# Altium schematic symbol library OLED.SchLib: 5 symbols
Pins are listed as number, name and electrical type; pins without a type are passive.

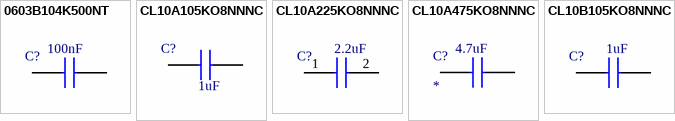
[diagram p0: symbols 0603B104K500NT to CL10B105KO8NNNC]

## 0603B104K500NT
designator C?  value 100nF  (hidden comment: *)
Capacitor; Manufacturer_Name: Fenghua Advanced Technology (Holding) CO.; Manufacturer_Part_Number: 0603B104K500NT; Datasheet Link: https://datasheet.lcsc.com/lcsc/1811081212_FH--Guangdong-Fenghua-Advanced-Tech-0603B104K500NT_C30926.pdf; Height: 0.9mm; LCSC Part Number: C30926
footprint CAPC1608X90N
pins: 1, 2

## CL10A105KO8NNNC
designator C?  value 1uF  (hidden comment: *)
Capacitor; Manufacturer_Name: SAMSUNG; Manufacturer_Part_Number: CL10A105KO8NNNC; Datasheet Link: https://labcenter.componentsearchengine.com/Datasheets/2/CL10A105KO8NNNC.pdf; Height: 0.9mm; Mouser Part Number: 187-CL10A105KO8NNNC; Mouser Price/Stock: https://www.mouser.co.uk/ProductDetail/Samsung-Electro-Mechanics/CL10A105KO8NNNC?qs=hqM3L16%252BxlfR4qamq4FMLg%3D%3D; Arrow Part Number: CL10A105KO8NNNC; Arrow Price/Stock: https://www.arrow.com/en/products/cl10a105ko8nnnc/samsung-electro-mechanics?utm_currency=USD&region=nac; LCSC Part Number: C1592
footprint CAPC1608X90N
pins: 1, 2

## CL10A225KO8NNNC
designator C?  value 2.2uF  (hidden comment: *)
Capacitor; Manufacturer_Name: SAMSUNG; Manufacturer_Part_Number: CL10A225KO8NNNC; Datasheet Link: https://lcsc.componentsearchengine.com/Datasheets/2/CL10A225KO8NNNC.pdf; Height: 0.9mm; Mouser Part Number: 187-CL10A225KO8NNNC; Mouser Price/Stock: https://www.mouser.co.uk/ProductDetail/Samsung-Electro-Mechanics/CL10A225KO8NNNC?qs=hqM3L16%252BxlecoJxUp5hKOw%3D%3D; Arrow Part Number: CL10A225KO8NNNC; Arrow Price/Stock: https://www.arrow.com/en/products/cl10a225ko8nnnc/samsung-electro-mechanics?region=europe; LCSC Part Number: C23630
footprint CAPC1608X90N
pins: 1, 2

## CL10A475KO8NNNC
designator C?  value 4.7uF
Capacitor; Manufacturer_Name: SAMSUNG; Manufacturer_Part_Number: CL10A475KO8NNNC; Datasheet Link: https://rs.componentsearchengine.com/Datasheets/2/CL10A475KO8NNNC.pdf; Height: 0.9mm; Mouser Part Number: 187-CL10A475KO8NNNC; Mouser Price/Stock: https://www.mouser.co.uk/ProductDetail/Samsung-Electro-Mechanics/CL10A475KO8NNNC?qs=X6jEic%2FHinAbIjmLnFfqqQ%3D%3D; Arrow Part Number: CL10A475KO8NNNC; Arrow Price/Stock: https://www.arrow.com/en/products/cl10a475ko8nnnc/samsung-electro-mechanics?utm_currency=USD&region=europe; LCSC Part Number: C19666
footprint CAPC1608X90N
pins: 1, 2

## CL10B105KO8NNNC
designator C?  value 1uF  (hidden comment: *)
Capacitor; Manufacturer_Name: SAMSUNG; Manufacturer_Part_Number: CL10B105KO8NNNC; Datasheet Link: https://datasheet.datasheetarchive.com/originals/distributors/Datasheets-DGA10/2410179.pdf; Height: 0.9mm; Mouser Part Number: 187-CL10B105KO8NNNC; Mouser Price/Stock: https://www.mouser.co.uk/ProductDetail/Samsung-Electro-Mechanics/CL10B105KO8NNNC?qs=349EhDEZ59o2mlUAs%2FkaKg%3D%3D; Arrow Part Number: CL10B105KO8NNNC; Arrow Price/Stock: https://www.arrow.com/en/products/cl10b105ko8nnnc/samsung-electro-mechanics?utm_currency=USD&region=europe; LCSC Part Number: C59782
footprint CAPC1608X90N
pins: 1, 2